# Altium schematic symbol library B10B-XH-A(LF)(SN).SchLib: 1 symbol
Pins are listed as number, name and electrical type; pins without a type are passive.

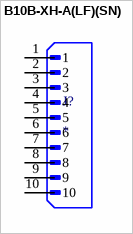
[diagram p0: symbol B10B-XH-A(LF)(SN)]

## B10B-XH-A(LF)(SN)
designator J?
MF: {'manufacturer': u'JST Sales'}; MP: B10B-XH-A(LF)(SN); Package: None; Price: None; Value: *; Availability: Unavailable
footprint JST_B10B-XH-A(LF)(SN)
pins: 1, 2, 3, 4, 5, 6, 7, 8, 9, 10